# Altium footprint library SMD-8B.PcbLib: 1 footprints
Each footprint in its own frame and in the unit in brackets; x right, y up, seen from the top. Pads: shape width x height; smd on the part's side, far side on the other; paste and mask are expansions set on the pad; w line width, h text height; cw(c..) or ccw(c..) is an arc to the next point about the centre after c.
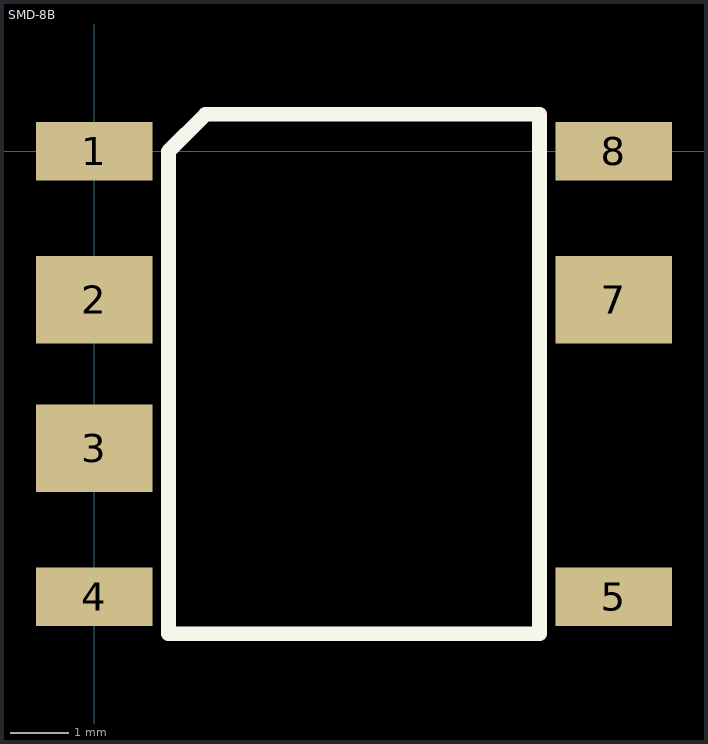
[diagram p0: the footprint, top view; thin cyan lines are the x and y axes]

## SMD-8B [mm]
pads (7):
  rect 2x1 all layers, no hole: 1(0,0) 4(0,-7.62) 5(8.89,-7.62) 8(8.89,0)
  rect 2x1.5 all layers, no hole: 2(0,-2.54) 3(0,-5.08) 7(8.89,-2.54)
Top Overlay:
  lines w0.254: 1.27,-8.255 7.62,-8.255 7.62,0.635 1.905,0.635 1.27,0 1.27,-8.255